# Altium footprint library Transformers.PcbLib: 1 footprints
Each footprint in its own frame and in the unit in brackets; x right, y up, seen from the top. Pads: shape width x height; smd on the part's side, far side on the other; paste and mask are expansions set on the pad; w line width, h text height; cw(c..) or ccw(c..) is an arc to the next point about the centre after c.
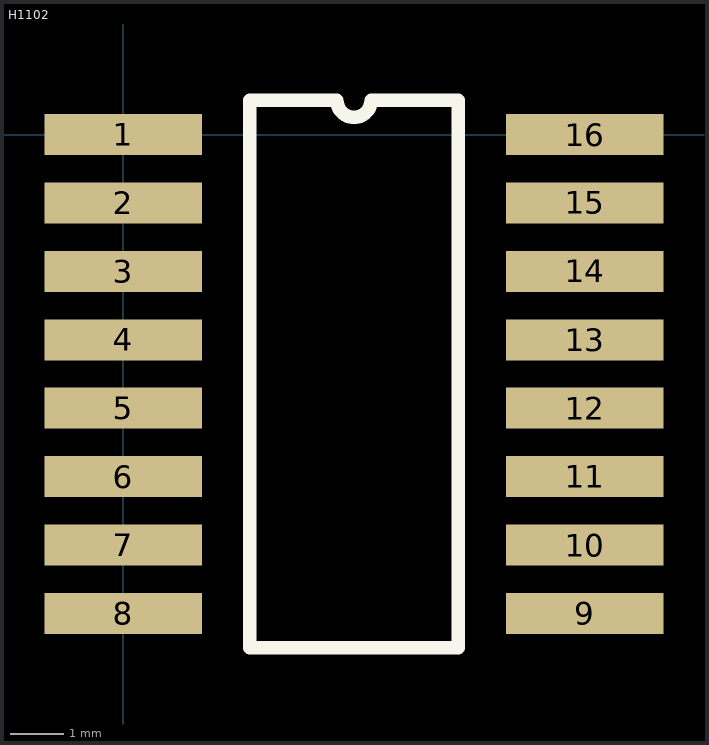
[diagram p0: the footprint, top view; thin cyan lines are the x and y axes]

## H1102 [mil]
pads (16):
  rect 115x30 smd: 1(0,0) 2(0,-50) 3(0,-100) 4(0,-150) 5(0,-200) 6(0,-250) 7(0,-300) 8(0,-350) 9(337.5,-350) 10(337.5,-300) 11(337.5,-250) 12(337.5,-200) 13(337.5,-150) 14(337.5,-100) 15(337.5,-50) 16(337.5,0)
Top Overlay:
  lines w10: 92.5,-375 245,-375 245,25 181.25,25 cw(c168.75,25) 156.25,25 92.5,25 92.5,-375
3D body: height 100, standoff 0, extent 92.48,-375.02 245.02,25.02